# Altium schematic symbol library SCH - DRIVER - GATE - ONSEMI NCP51820.SchLib: 1 symbol
Pins are listed as number, name and electrical type; pins without a type are passive.

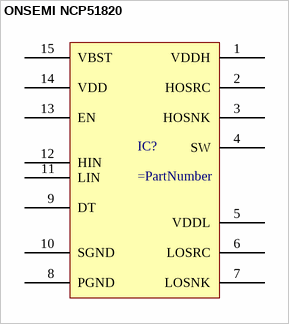
[diagram p0: symbol ONSEMI NCP51820]

## ONSEMI NCP51820
designator IC?
pins: 1 VDDH, 2 HOSRC, 3 HOSNK, 4 SW, 5 VDDL, 6 LOSRC, 7 LOSNK, 8 PGND, 9 DT, 10 SGND, 11 LIN, 12 HIN, 13 EN, 14 VDD, 15 VBST